# Altium footprint library PcbLib1.PcbLib: 12 footprints
Each footprint in its own frame and in the unit in brackets; x right, y up, seen from the top. Pads: shape width x height; smd on the part's side, far side on the other; paste and mask are expansions set on the pad; w line width, h text height; cw(c..) or ccw(c..) is an arc to the next point about the centre after c.
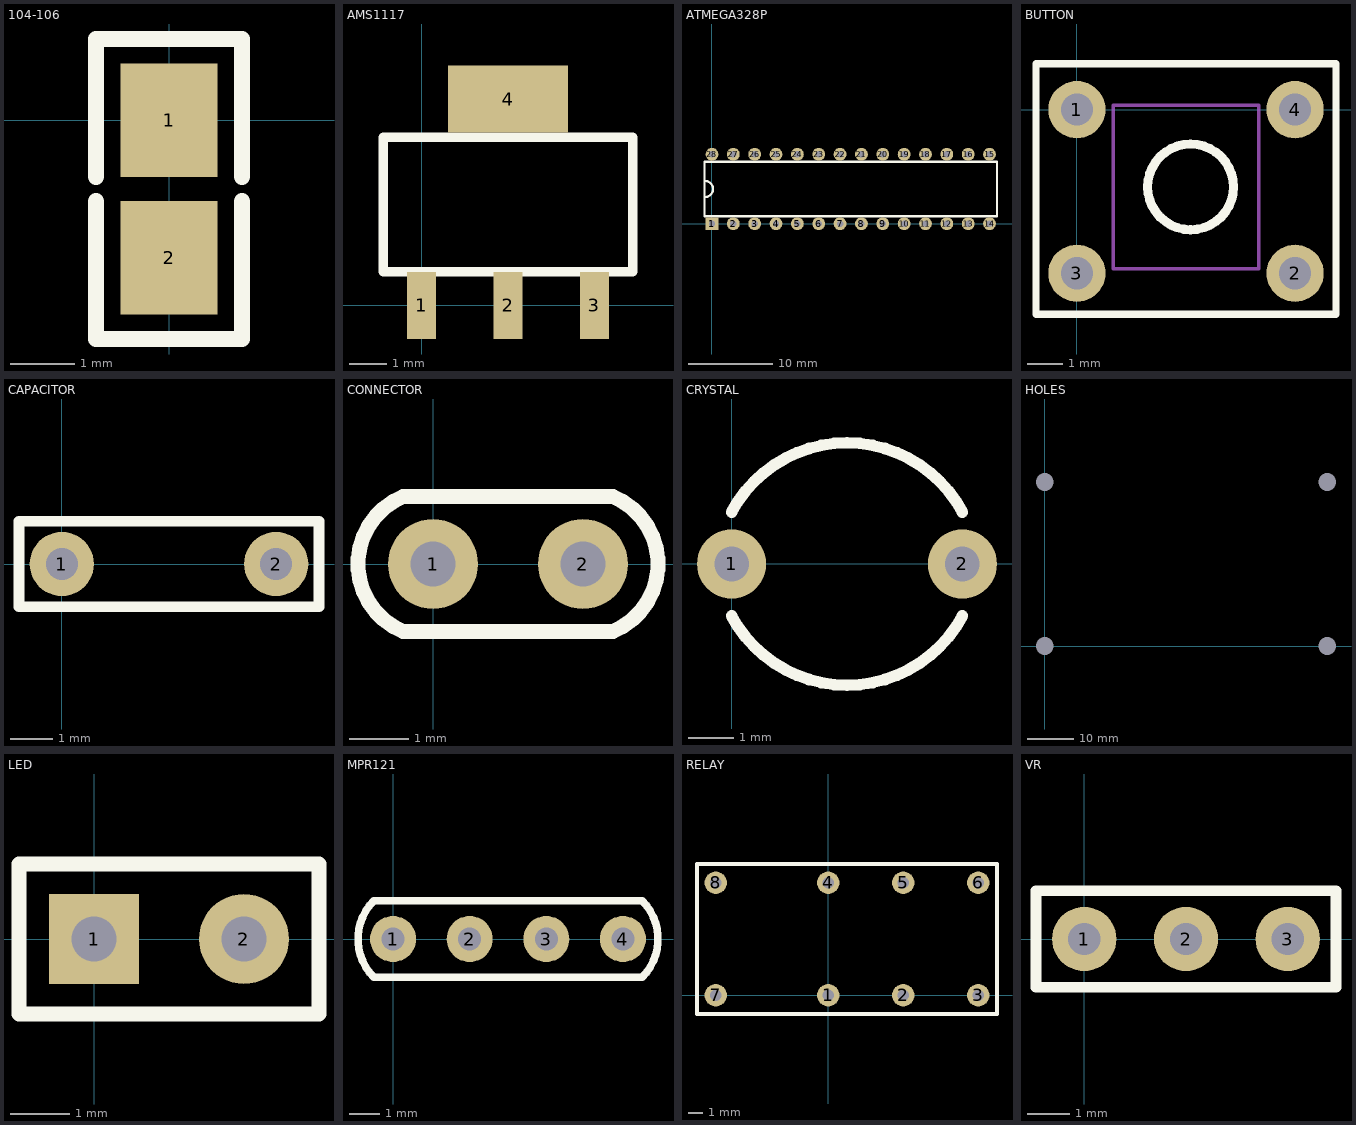
[diagram p0: the footprints below, top view; thin cyan lines are the x and y axes]

## 104-106 [mil] "Capacitors"
pads (2):
  rect 60x70 smd: 1(0,0) 2(0,-85)
Top Overlay:
  lines w10: -45,-50 -45,-135 45,-135 45,-50 ; -45,-35 -45,50 45,50 45,-35

## AMS1117 [mil] "Voltage Regulator"
pads (4):
  rect 30x70 smd: 1(0,0) 2(90,0) 3(180,0)
  rect 125x70 smd: 4(90,215)
Top Overlay:
  lines w10: -40,35 220,35 220,175 -40,175 -40,35

## ATMEGA328P [mil] "IC"
pads (28):
  rect 60x60 hole 30: 1(0,0)
  round 60 hole 30: 2(100,0) 3(200,0) 4(300,0) 5(400,0) 6(500,0) 7(600,0) 8(700,0) 9(800,0) 10(900,0) 11(1000,0) 12(1100,0) 13(1200,0) 14(1300,0) 15(1300,325) 16(1200,325) 17(1100,325) 18(1000,325) 19(900,325) 20(800,325) 21(700,325) 22(600,325) 23(500,325) 24(400,325) 25(300,325) 26(200,325) 27(100,325) 28(0,325)
Top Overlay:
  lines w10: -35,125 ccw(c-32.5,162.5) -35,200 ; -35,35 -35,290 1335,290 1335,35 -35,35

## BUTTON [mil]
pads (4):
  round 63 hole 35.43: 1(0,0) 2(240,-180) 3(0,-180) 4(240,0)
Top Overlay:
  circle w10: c125,-85 r47.17
  lines w7.87: -45,-225 285,-225 285,50.39 -45,50.39 -45,-225
Mechanical 13:
  lines w3.94: 40,-175 200,-175 200,5 40,5 40,-175
3D body: height 220.47, standoff 0, extent 40,-175 200,5

## CAPACITOR [mil] "CAPACITOR"
pads (2):
  round 60 hole 30: 1(0,0) 2(200,0)
Top Overlay:
  lines w10: -40,-40 -40,40 240,40 240,-40 -40,-40

## CONNECTOR [mil]
pads (2):
  round 60 hole 30: 1(0,0) 2(100,0)
Top Overlay:
  lines w10: -20,-45 cw(c-1.25,0) -20,45 120,45 cw(c101.25,0) 120,-45 -20,-45

## CRYSTAL [mil] "CRYSTAL"
pads (2):
  round 60 hole 30: 1(0,0) 2(200,0)
Top Overlay:
  lines w10: 0,-45 ccw(c100,8.33) 200,-45 ; 0,45 cw(c100,-8.33) 200,45

## HOLES [mil]
pads (4):
  round 0 hole 150: 1(0,0) 2(2390,0) 3(2390,1390) 4(0,1390)

## LED [mil]
pads (2):
  rect 60x60 hole 30: 1(0,0)
  round 60 hole 30: 2(100,0)
Top Overlay:
  lines w10: -50,-50 150,-50 150,50 -50,50 -50,-50

## MPR121 [mil] "MPR121"
pads (4):
  round 60 hole 30: 1(0,0) 2(100,0) 3(200,0) 4(300,0)
Top Overlay:
  lines w10: -25,-50 cw(c25,0) -25,50 325,50 cw(c275,0) 325,-50 -25,-50

## RELAY [mil]
pads (8):
  round 60 hole 30: 1(0,0) 2(200,0) 3(400,0) 4(0,300) 5(200,300) 6(400,300) 7(-300,0) 8(-300,300)
Top Overlay:
  lines w10: -350,-50 450,-50 450,350 -350,350 -350,-50

## VR [mil] "VOLTAGE REGULATOR"
pads (3):
  round 60 hole 30: 1(0,0) 2(95,0) 3(190,0)
Top Overlay:
  lines w10: -45,-45 235,-45 235,45 -45,45 -45,-45